# Altium footprint library DRL.PcbLib: 1 footprints
Each footprint in its own frame and in the unit in brackets; x right, y up, seen from the top. Pads: shape width x height; smd on the part's side, far side on the other; paste and mask are expansions set on the pad; w line width, h text height; cw(c..) or ccw(c..) is an arc to the next point about the centre after c.
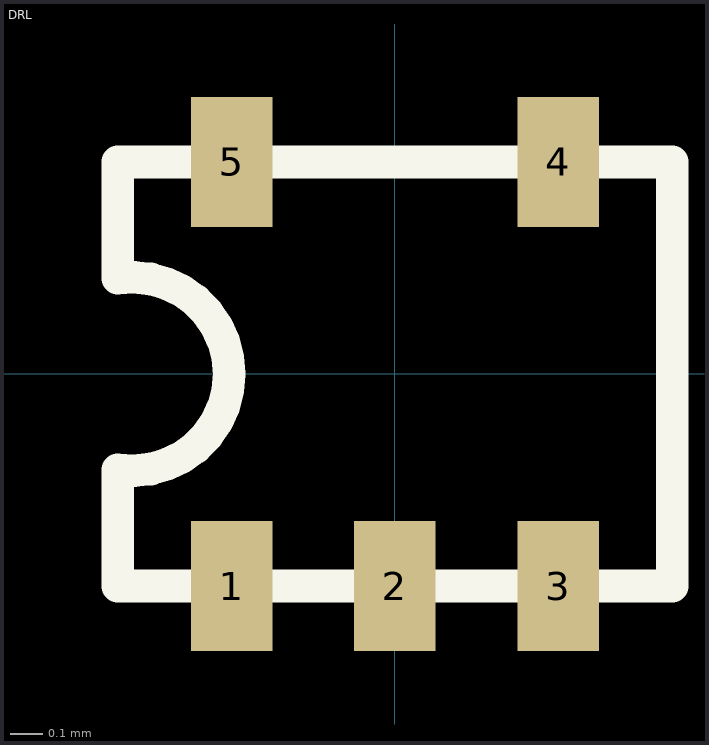
[diagram p0: the footprint, top view; thin cyan lines are the x and y axes]

## DRL [mm] "DRL Package(R-PDSO-N5 TI)"
height 0.6
pads (5):
  rect 0.25x0.4 smd: 1(-0.5,-0.65) 2(0,-0.65) 3(0.5,-0.65) 4(0.5,0.65) 5(-0.5,0.65)
Top Overlay:
  lines w0.1: -0.85,-0.65 -0.85,-0.293 ccw(c-0.805,0) -0.85,0.293 -0.85,0.65 0.85,0.65 0.85,-0.65 -0.85,-0.65